# EAGLE library part ITT-RT112 (library switch)
ROTARY SWITCH ITT-Cannon
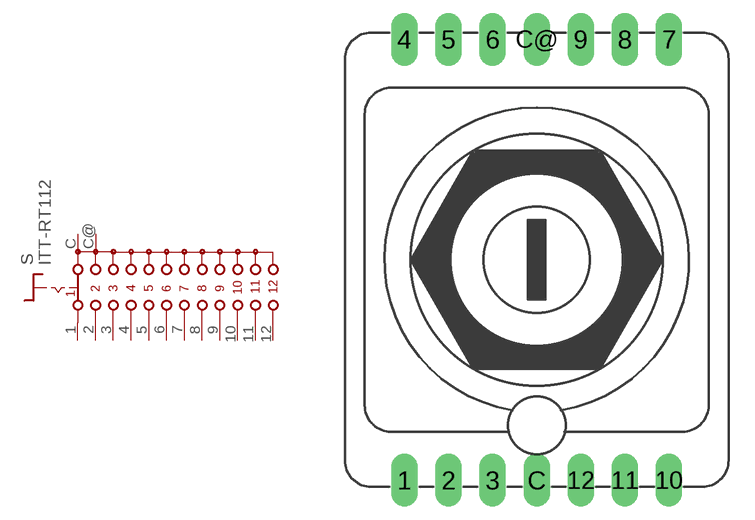
[diagram p7: symbol with the pads of ITT-RT112; footprint ITT-RT112]

Designator prefix S

## ITT-RT112  [ITT-RT112]
1  1  pas
2  2  pas
3  3  pas
4  4  pas
5  5  pas
6  6  pas
7  7  pas
8  8  pas
9  9  pas
10  10  pas
11  11  pas
12  12  pas
C  C  pas
C@  C  pas

## Footprint ITT-RT112 (pad centres in mm)
ROTARY SWITCH ITT-Cannon
drill 1.016 long: 1 -7.62,-12.7; 2 -5.08,-12.7; 3 -2.54,-12.7; 4 -7.62,12.7; 5 -5.08,12.7; 6 -2.54,12.7; 7 7.62,12.7; 8 5.08,12.7; 9 2.54,12.7; 10 7.62,-12.7; 11 5.08,-12.7; 12 2.54,-12.7; C 0,-12.7; C@ 0,12.7